# Altium footprint library Incubator_HUZZAH32.PcbLib: 11 footprints
Each footprint in its own frame and in the unit in brackets; x right, y up, seen from the top. Pads: shape width x height; smd on the part's side, far side on the other; paste and mask are expansions set on the pad; w line width, h text height; cw(c..) or ccw(c..) is an arc to the next point about the centre after c.
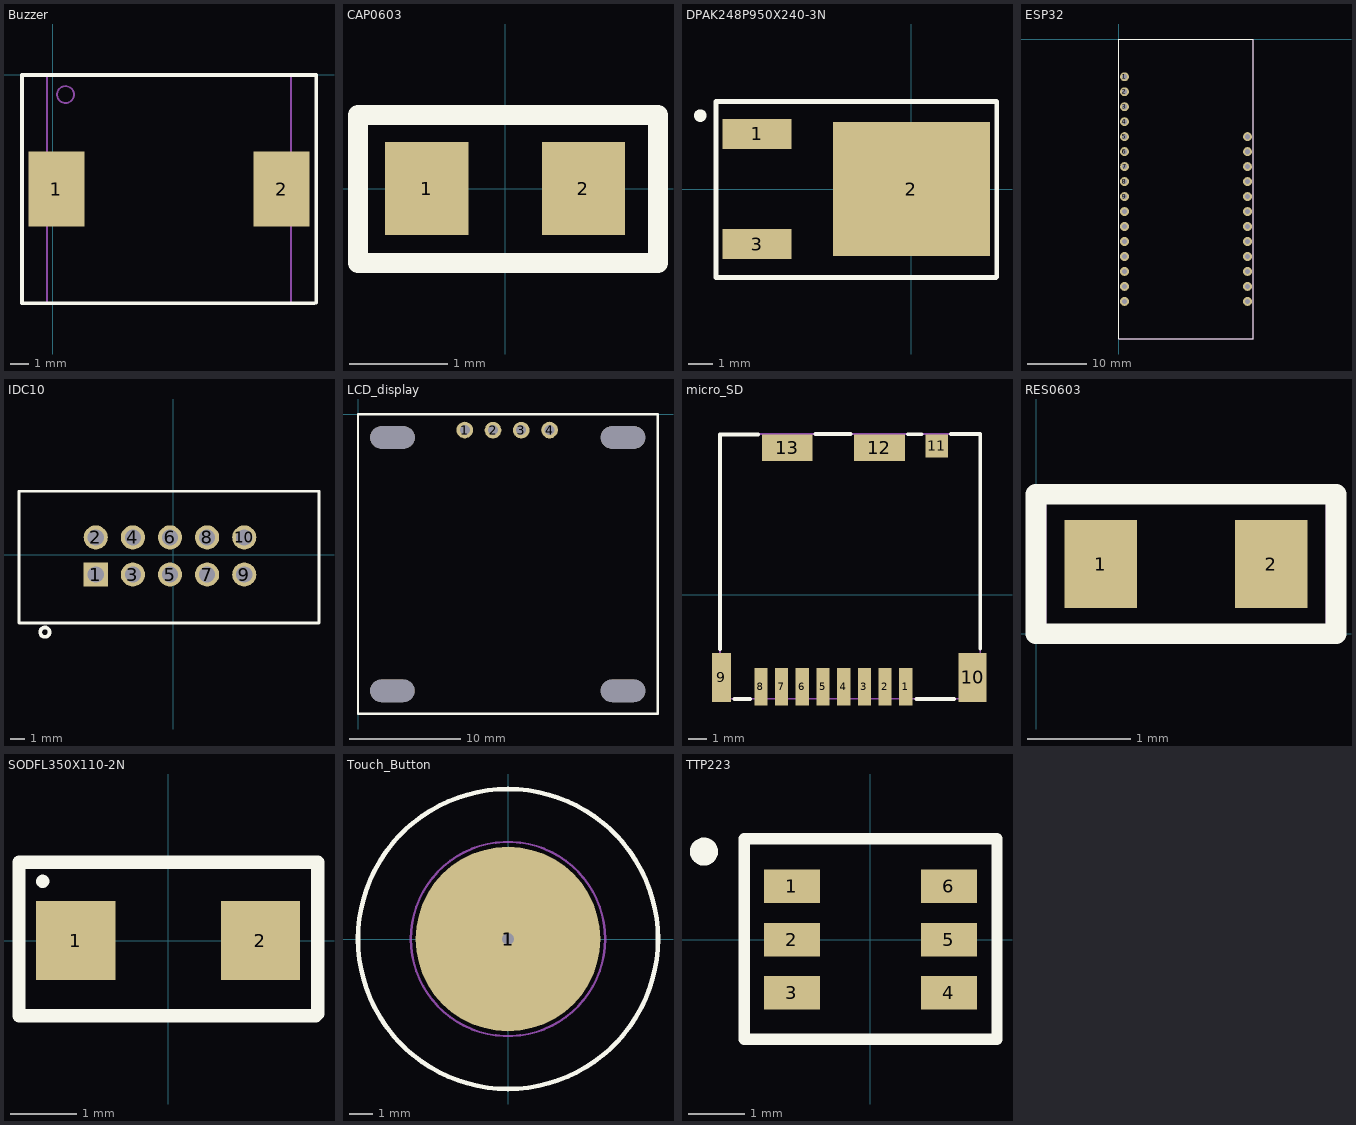
[diagram p0: the footprints below, top view; thin cyan lines are the x and y axes]

## Buzzer [mm]
pads (2):
  rect 3x4 smd: 1(0.2,-6.1) 2(12.2,-6.1)
Top Overlay:
  lines w0.2: -1.64,-12.19 13.95,-12.19 14.05,-12.156 14.05,-0.01 12.74,-0.02 12.29,-0.02 -1.64,-0.02 -1.64,-12.19
Mechanical 29:
  circle w0.1: c0.68,-1.06 r0.45
  lines w0.1: -0.31,-12.18 -0.31,0 12.71,0 12.71,-12.18 -0.31,-12.18
  text "'.Designator'" at 0.93,-3.52 h1
3D body: height 3, standoff 0, extent -0.33,-12.22 12.73,-0.05

## CAP0603 [mm] "Chip Capacitor, 2-Leads, Body 1.60x0.80mm, IPC Medium Density"
height 0.6
pads (2):
  rect 0.85x0.95 smd: 1(-0.8,0) 2(0.8,0)
Top Overlay:
  lines w0.2: -1.5,-0.76 1.56,-0.76 1.56,0.75 -1.5,0.75 -1.5,-0.76
Mechanical 29:
  lines w0.1: -1.46,-0.74 -1.46,0.72 1.55,0.72 1.55,-0.74 -1.46,-0.74
  text "'.Designator'" at -1.04,-0.14 h0.52
3D body: height 0.6, standoff 0, extent -0.45,-0.4 0.45,0.4
3D body: height 0.6, standoff 0, extent 0.45,-0.4 0.8,0.4
3D body: height 0.6, standoff 0, extent -0.8,-0.4 -0.45,0.4

## DPAK248P950X240-3N [mm] "D-PAK, 3-Pads, Body 6.25x6.76mm (max), IPC Medium Density"
height 2.4
pads (3):
  rect 2.85x1.25 smd: 1(-6.39,2.29) 3(-6.39,-2.27)
  rect 6.5x5.55 smd: 2(0,0)
Top Overlay:
  circle w0.25: c-8.74,3.05 r0.136
  lines w0.2: -8.09,-3.65 -8.09,3.64 3.54,3.64 3.54,-3.63 3.52,-3.65 -8.09,-3.65
Mechanical 29:
  lines w0.1: -8.05,-3.65 -8.05,3.65 3.55,3.65 3.55,-3.65 -8.05,-3.65
  text "'.Designator'" at -7.91,-0.25 h1
3D body: height 2.4, standoff 0.6, extent -4.4,-3.4 1.9,3.4

## ESP32 [mm]
pads (28):
  round 1.5 hole 0.9: 1(1,-6.35) 2(1,-8.89) 3(1,-11.43) 4(1,-13.97) 5(1,-16.51) 6(1,-19.05) 7(1.01,-21.59) 8(1,-24.13) 9(1,-26.67) 10(1,-29.21) 11(1,-31.75) 12(1,-34.29) 13(1,-36.83) 14(1,-39.37) 15(1,-41.91) 16(1,-44.45) 17(21.86,-44.45) 18(21.86,-41.91) 19(21.86,-39.37) 20(21.86,-36.83) 21(21.86,-34.29) 22(21.86,-31.75) 23(21.86,-29.21) 24(21.86,-26.67) 25(21.86,-24.13) 26(21.86,-21.59) 27(21.86,-19.05) 28(21.86,-16.51)
Top Overlay:
  lines w0.2: 0,-50.8 22.85,-50.8 22.85,0.04 0,0.04 0,-50.8
Mechanical 29:
  lines w0.1: 0,-50.82 15.72,-50.82 22.86,-50.82 22.86,0.04 0.04,0.04 0,0 0,-50.82
  text "'.Designator'" at 9.14,-29.3 h1.52

## IDC10 [mm]
pads (10):
  rect 1.65x1.65 / inner round 1.65 / far side rect 1.65x1.65 hole 1.1: 1(-5.313,-1.367)
  round 1.65 hole 1.1: 2(-5.313,1.173) 3(-2.773,-1.367) 4(-2.773,1.173) 5(-0.233,-1.367) 6(-0.233,1.173) 7(2.307,-1.367) 8(2.307,1.173) 9(4.847,-1.367) 10(4.847,1.173)
Top Overlay:
  circle w0.254: c-8.79,-5.31 r0.323
  lines w0.2: -10.563,-4.677 -10.563,-1.367 -10.563,4.328 9.947,4.328 9.947,-4.672 -5.313,-4.672 -10.531,-4.672 -10.563,-4.64
Mechanical 29:
  lines w0.1: -10.56,-4.66 -10.55,-4.67 9.94,-4.67 9.96,-4.65 9.96,4.3 9.92,4.34 -10.56,4.34 -10.56,-4.66
  text "'.Designator'" at -8.84,-3.74 h1.52
3D body "61201021621 (rev1).stp": height 9.43, standoff -2.68, extent -10.45,-4.515 9.91,4.66

## LCD_display [mm]
pads (8):
  round 1.5 hole 0.9: 1(9.61,-1.43)
  round 1.501 hole 0.9: 2(12.15,-1.44) 3(14.69,-1.44) 4(17.24,-1.43)
  oval 4x2 hole 2.032 slot 3.988 at 0 deg unplated: ""(3.09,-24.9) ""(3.1,-2.1) ""(23.85,-24.9) ""(23.85,-2.1)
Top Overlay:
  lines w0.2: 0.01,-26.96 26.97,-26.96 26.97,0 0.01,0 0.01,-26.96
Mechanical 29:
  lines w0.1: 26.925,0 23.2,0 22.225,0 0,0 0,-26.975 27,-26.975 26.95,-0.025
  text "'.Designator'" at 8.37,-14.17 h1.52
3D body "User Library-128x64I2COLEDDisplayAdafruit.step": height 5.47, standoff -5.37, extent 0.14,-26.95 26.84,0.91

## micro_SD [mm]
pads (13):
  rect 0.7x2 smd: 1(-7.577,-4.893) 2(-8.677,-4.893) 3(-9.777,-4.893) 4(-10.877,-4.893) 5(-11.977,-4.893) 6(-13.077,-4.893) 7(-14.177,-4.893) 8(-15.277,-4.893)
  rect 1x2.6 smd: 9(-17.377,-4.393)
  rect 1.5x2.6 smd: 10(-4.027,-4.393)
  rect 1.2x1.2 smd: 11(-5.927,7.907)
  rect 2.7x1.4 smd: 12(-8.977,7.807) 13(-13.877,7.807)
Top Overlay:
  lines w0.2: -17.448,-2.89 -17.448,8.52 -15.43,8.52 ; -16.68,-5.54 -15.84,-5.54 ; -12.38,8.54 -10.51,8.54 ; -7.47,8.53 -6.73,8.53 ; -7.01,-5.54 -5,-5.54 ; -5.17,8.55 -3.623,8.55 -3.618,8.545 -3.618,-2.88
Mechanical 29:
  lines w0.1: -17.448,-5.535 -3.618,-5.535 -3.618,8.545 -17.448,8.545 -17.448,-5.535
  text "'.Designator'" at -14.47,-0.06 h0.7
3D body "DM3CS-SF.stp": height 1.98, standoff 0.05, extent -17.45,-5.65 -3.65,8.45
3D body "SW3dPS-microsd card.STEP": height 1.9, standoff 0.9, extent -16.23,-6.93 -5.218,8.07

## RES0603 [mm] "Chip Resistor, 2-Leads, Body 1.60x0.80mm, IPC Medium Density"
height 0.6
pads (2):
  rect 0.7x0.85 smd: 1(0.625,0.675) 2(2.275,0.675)
Top Overlay:
  lines w0.2: 0,0 0,1.35 2.9,1.35 2.9,0 0,0
Mechanical 29:
  lines w0.1: 0.053,0.04 0.053,1.31 2.847,1.31 2.847,0.04 0.053,0.04
  text "'.Designator'" at 0.434,0.294 h0.7
3D body: height 0.6, standoff 0, extent 0.95,0.275 1.95,1.075
3D body: height 0.6, standoff 0, extent 0.65,0.275 0.95,1.075
3D body: height 0.6, standoff 0, extent 1.95,0.275 2.25,1.075

## SODFL350X110-2N [mm] "SODFL, 2-Leads, Body 1.90x3.50mm, IPC Medium Density"
height 1.1
pads (2):
  rect 1.2x1.2 smd: 1(-1.4,0) 2(1.4,0)
Top Overlay:
  circle w0.1: c-1.9,0.9 r0.05
  lines w0.2: -2.26,-1.14 2.24,-1.14 2.27,-1.11 2.27,1.19 -2.26,1.19 -2.26,-1.14
Mechanical 29:
  lines w0.1: -2.26,-1.13 -2.26,1.14 2.29,1.14 2.29,-1.13 -2.26,-1.13
  text "'.Designator'" at -2.03,-0.32 h1
3D body: height 1.1, standoff 0, extent -1.4,-0.95 1.4,0.95

## Touch_Button [mm]
pads (2):
  round 8 smd: 1(0,0)
  round 1 hole 0.5: 1(0,0)
Top Overlay:
  circle w0.2: c0,0 r6.5
Mechanical 29:
  circle w0.1: c0,0 r4.211
  text "'.Designator'" at -2.79,-0.51 h1.52

## TTP223 [mm] "TSOP, 6-Leads, Body 2.90x1.70mm, Pitch 0.95mm, IPC Medium Density"
height 1.26
pads (6):
  rect 1x0.6 smd: 1(-1.4,0.95) 2(-1.4,0) 3(-1.4,-0.95) 4(1.4,-0.95) 5(1.4,0) 6(1.4,0.95)
Top Overlay:
  circle w0.25: c-2.97,1.57 r0.125
  lines w0.2: -2.25,-1.78 2.26,-1.78 2.26,1.8 -2.25,1.8 -2.25,-1.78
Mechanical 29:
  lines w0.1: -2.23,-1.78 2.24,-1.78 2.24,1.8 -2.23,1.8 -2.23,-1.78
3D body: height 1.26, standoff 0.05, extent -0.9,-1.55 0.9,1.55